# Altium schematic symbol library ESP32.SchLib: 4 symbols
Pins are listed as number, name and electrical type; pins without a type are passive.

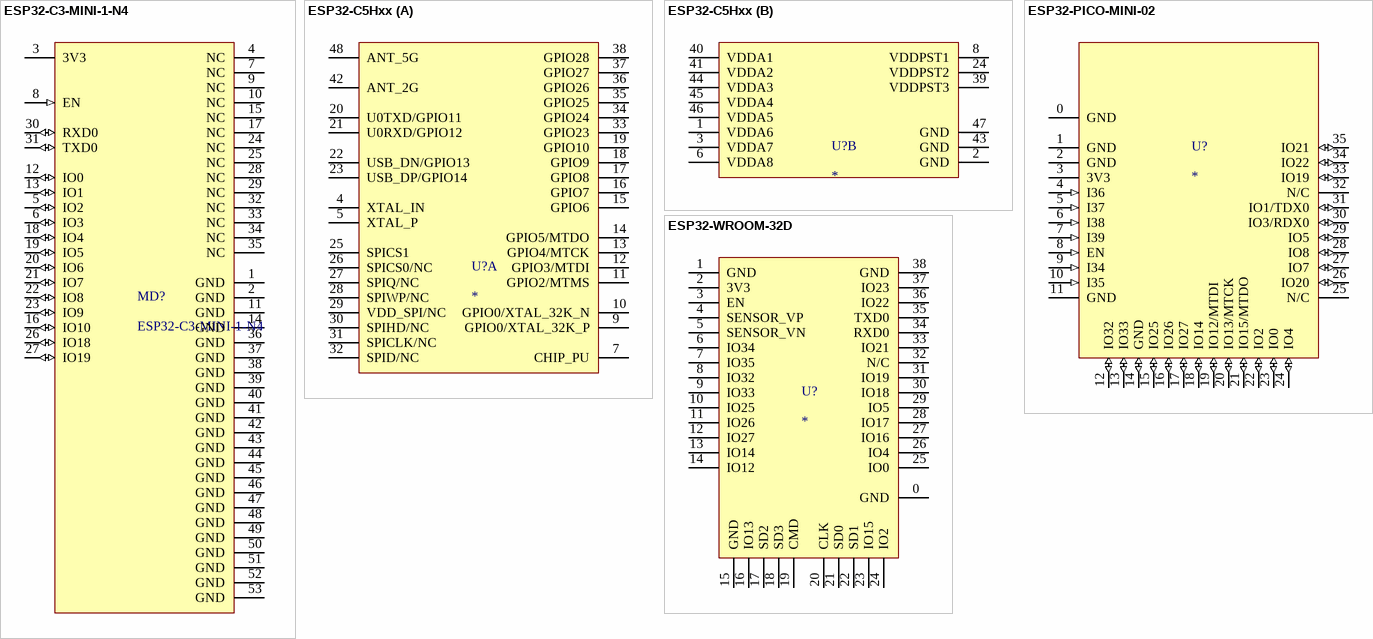
[diagram p0: symbols ESP32-C3-MINI-1-N4 to ESP32-WROOM-32D]

## ESP32-C3-MINI-1-N4
designator MD?
pins: 1 GND (power), 2 GND (power), 3 3V3 (power), 4 NC, 5 IO2 (io), 6 IO3 (io), 7 NC, 8 EN (in), 9 NC, 10 NC, 11 GND (power), 12 IO0 (io), 13 IO1 (io), 14 GND (power), 15 NC, 16 IO10 (io), 17 NC, 18 IO4 (io), 19 IO5 (io), 20 IO6 (io), 21 IO7 (io), 22 IO8 (io), 23 IO9 (io), 24 NC, 25 NC, 26 IO18 (io), 27 IO19 (io), 28 NC, 29 NC, 30 RXD0 (io), 31 TXD0 (io), 32 NC, 33 NC, 34 NC, 35 NC, 36 GND (power), 37 GND (power), 38 GND (power), 39 GND (power), 40 GND (power), 41 GND (power), 42 GND (power), 43 GND (power), 44 GND (power), 45 GND (power), 46 GND (power), 47 GND (power), 48 GND (power), 49 GND (power), 50 GND (power), 51 GND (power), 52 GND (power), 53 GND (power)

## ESP32-C5Hxx
designator U?
part A pins: 4 XTAL_IN (power), 5 XTAL_P (power), 7 CHIP_PU (power), 9 GPIO0/XTAL_32K_P (power), 10 GPIO0/XTAL_32K_N (power), 11 GPIO2/MTMS (power), 12 GPIO3/MTDI (power), 13 GPIO4/MTCK (power), 14 GPIO5/MTDO (power), 15 GPIO6 (power), 16 GPIO7 (power), 17 GPIO8 (power), 18 GPIO9 (power), 19 GPIO10 (power), 20 U0TXD/GPIO11 (power), 21 U0RXD/GPIO12 (power), 22 USB_DN/GPIO13 (power), 23 USB_DP/GPIO14 (power), 25 SPICS1 (power), 26 SPICS0/NC (power), 27 SPIQ/NC (power), 28 SPIWP/NC (power), 29 VDD_SPI/NC (power), 30 SPIHD/NC (power), 31 SPICLK/NC (power), 32 SPID/NC (power), 33 GPIO23 (power), 34 GPIO24 (power), 35 GPIO25 (power), 36 GPIO26 (power), 37 GPIO27 (power), 38 GPIO28 (power), 42 ANT_2G (power), 48 ANT_5G (power)
part B pins: 1 VDDA6 (power), 2 GND (power), 3 VDDA7 (power), 6 VDDA8 (power), 8 VDDPST1 (power), 24 VDDPST2 (power), 39 VDDPST3 (power), 40 VDDA1 (power), 41 VDDA2 (power), 43 GND (power), 44 VDDA3 (power), 45 VDDA4 (power), 46 VDDA5 (power), 47 GND (power)

## ESP32-PICO-MINI-02
designator U?
pins: 0 GND (power), 1 GND (power), 2 GND (power), 3 3V3 (power), 4 I36 (in), 5 I37 (in), 6 I38 (in), 7 I39 (in), 8 EN (in), 9 I34 (in), 10 I35 (in), 11 GND (power), 12 IO32 (io), 13 IO33 (io), 14 GND (io), 15 IO25 (io), 16 IO26 (io), 17 IO27 (io), 18 IO14 (io), 19 IO12/MTDI (io), 20 IO13/MTCK (io), 21 IO15/MTDO (io), 22 IO2 (io), 23 IO0 (io), 24 IO4 (io), 25 N/C, 26 IO20 (io), 27 IO7 (io), 28 IO8 (io), 29 IO5 (io), 30 IO3/RDX0 (io), 31 IO1/TDX0 (io), 32 N/C, 33 IO19 (io), 34 IO22 (io), 35 IO21 (io)

## ESP32-WROOM-32D
designator U?
footprint ESP32-WROOM-32D
pins: 0 GND, 1 GND, 2 3V3, 3 EN, 4 SENSOR_VP, 5 SENSOR_VN, 6 IO34, 7 IO35, 8 IO32, 9 IO33, 10 IO25, 11 IO26, 12 IO27, 13 IO14, 14 IO12, 15 GND, 16 IO13, 17 SD2, 18 SD3, 19 CMD, 20 CLK, 21 SD0, 22 SD1, 23 IO15, 24 IO2, 25 IO0, 26 IO4, 27 IO16, 28 IO17, 29 IO5, 30 IO18, 31 IO19, 32 N/C, 33 IO21, 34 RXD0, 35 TXD0, 36 IO22, 37 IO23, 38 GND